# Altium schematic symbol library 3296P-1-105.SchLib: 1 symbol
Pins are listed as number, name and electrical type; pins without a type are passive.

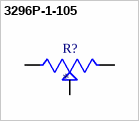
[diagram p0: symbol 3296P-1-105]

## 3296P-1-105
designator R?
1 kOhms 0.5W, 1/2W PC Pins Through Hole Trimmer Potentiometer Cermet 25 Turn Side Adjustment; MP: altium_native_batch; Package: None; Price: None; Value: *; Availability: Unavailable
footprint TRIM_3296P-1-105
pins: 1 CCW, 2 WIPER, 3 CW